# EAGLE library part BLUETOOTH-SERIAL-HC-06 (library BLUETOOTH-SERIAL-HC-06)
Bluetooth / 802.15.1 Modules BLUETOOTH-SERIAL-HC-06 Source: Datasheet <https://componentsearchengine.com/Datasheets/1/BLUETOOTH-SERIAL-HC-06.pdf>
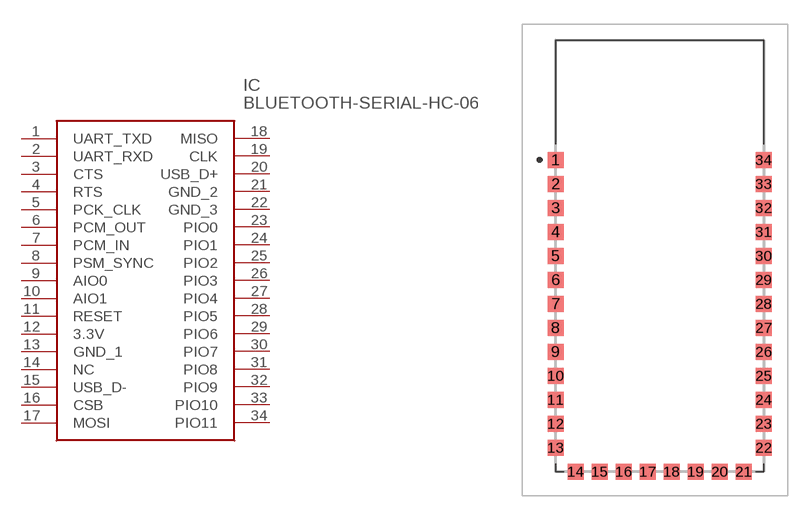
[diagram p0: symbol with the pads of BLUETOOTHSERIALHC06; footprint BLUETOOTHSERIALHC06]

Designator prefix IC

## BLUETOOTH-SERIAL-HC-06 (Description: Bluetooth / 802.15.1 Modules BLUETOOTH-SERIAL-HC-06; Height: 2mm; Manufacturer_Name: Olimex Ltd.; Manufacturer_Part_Number: BLUETOOTH-SERIAL-HC-06; Mouser_Part_Number: 909-BLE-SERIAL-HC-06; Mouser_Price-Stock: https://www.mouser.com/Search/Refine.aspx?Keyword=909-BLE-SERIAL-HC-06)  [BLUETOOTHSERIALHC06]
1  UART_TXD
2  UART_RXD
3  CTS
4  RTS
5  PCK_CLK
6  PCM_OUT
7  PCM_IN
8  PSM_SYNC
9  AIO0
10  AIO1
11  RESET
12  3.3V
13  GND_1
14  NC  nc
15  USB_D-
16  CSB
17  MOSI
18  MISO
19  CLK
20  USB_D+
21  GND_2
22  GND_3
23  PIO0
24  PIO1
25  PIO2
26  PIO3
27  PIO4
28  PIO5
29  PIO6
30  PIO7
31  PIO8
32  PIO9
33  PIO10
34  PIO11

## Footprint BLUETOOTHSERIALHC06 (pad centres in mm)
BLUETOOTH-SERIAL-HC-06
smd 1 x 1: 1 -6.2,6.25; 2 -6.2,4.75; 3 -6.2,3.25; 4 -6.2,1.75; 5 -6.2,0.25; 6 -6.2,-1.25; 7 -6.2,-2.75; 8 -6.2,-4.25; 9 -6.2,-5.75; 10 -6.2,-7.25; 11 -6.2,-8.75; 12 -6.2,-10.25; 13 -6.2,-11.75; 14 -4.95,-13.25; 15 -3.45,-13.25; 16 -1.95,-13.25; 17 -0.45,-13.25; 18 1.05,-13.25; 19 2.55,-13.25; 20 4.05,-13.25; 21 5.55,-13.25; 22 6.8,-11.75; 23 6.8,-10.25; 24 6.8,-8.75; 25 6.8,-7.25; 26 6.8,-5.75; 27 6.8,-4.25; 28 6.8,-2.75; 29 6.8,-1.25; 30 6.8,0.25; 31 6.8,1.75; 32 6.8,3.25; 33 6.8,4.75; 34 6.8,6.25